# Altium integrated library NSC LDO.IntLib: 1229 symbols (part 25 of 28)
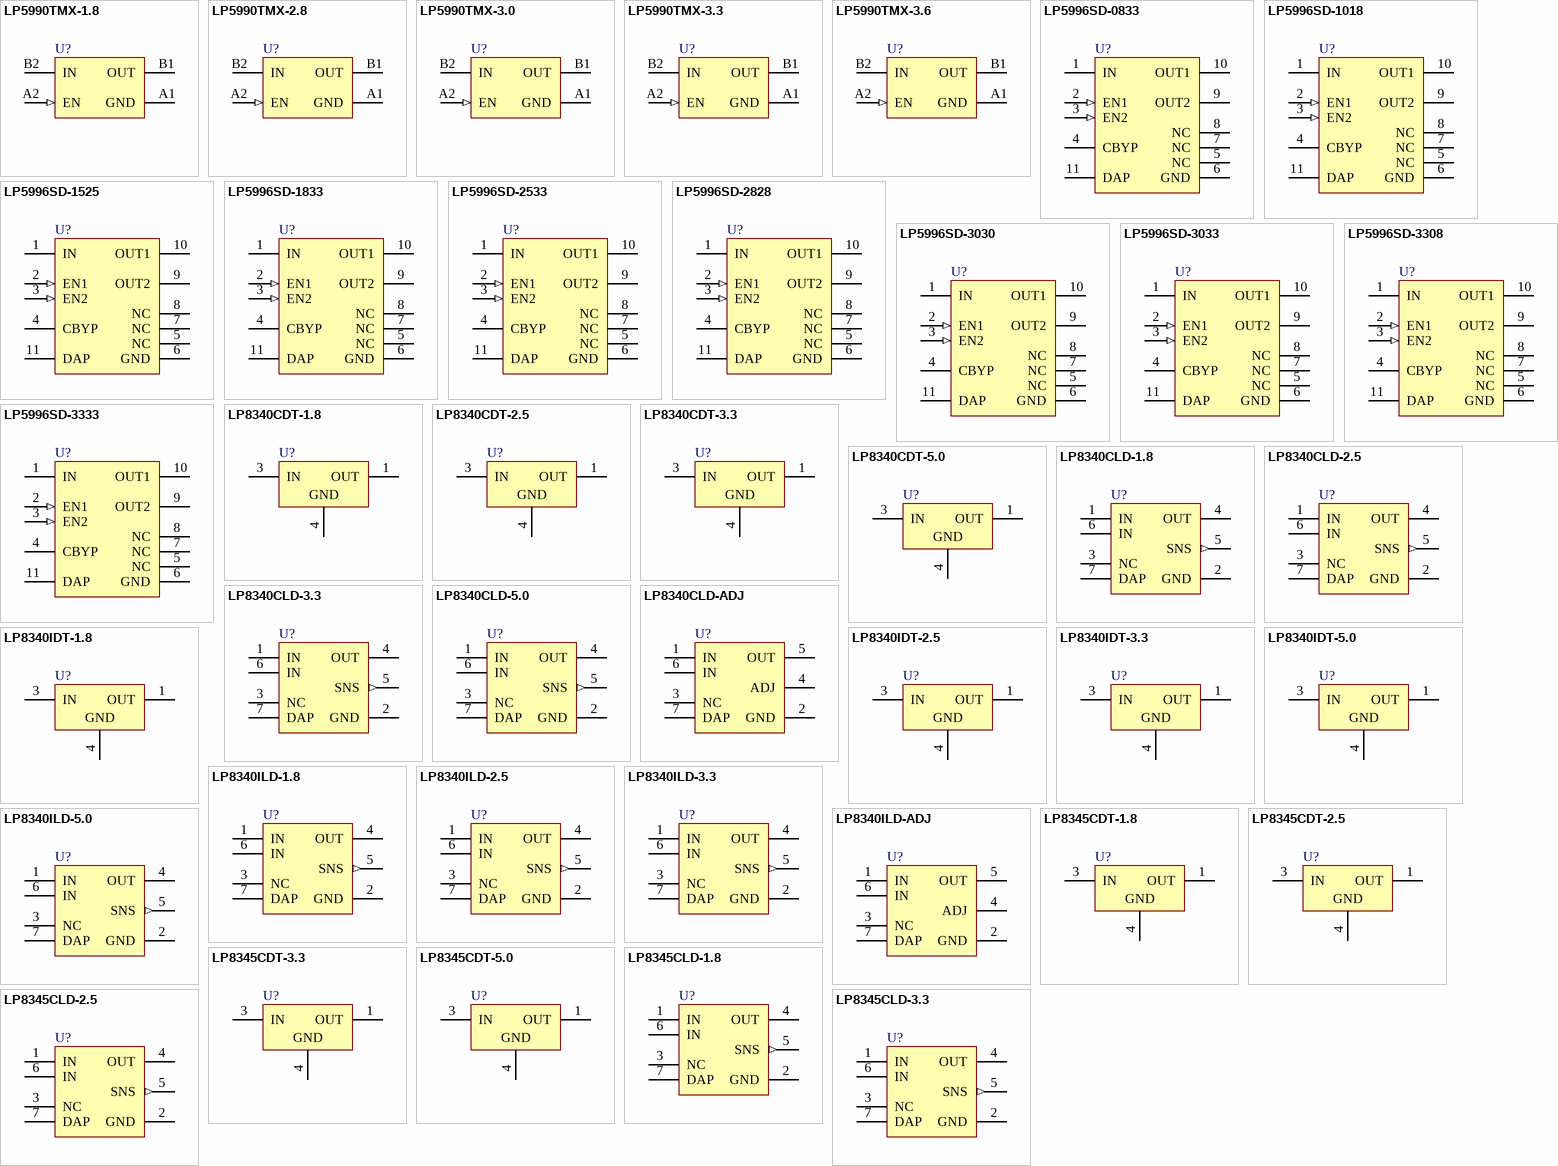
[diagram p55: symbols LP5990TMX-1.8 to LP8345CLD-3.3]

## LP5990TMX-3.0
designator U?
Micropower 200mA Low Dropout Voltage Regulator; PartNumber: LP5990TMX-3.0; Manufacturer: National Semiconductor; CompType: LDO IC; PackageTopMarking: X*I; PowerWise: N; Published: 4-May-2009; DatasheetVersion: Dec-2007; PackageVersion: revA, 2007; PackageReference: TMD04CEA; Publisher: Altium Limited; PackageDescription: Thin Micro SMD, 4 Bump, 0.4mm Pitch; RoHS: Y; PinCount: 4; ComponentLink1Description: LP5990 Datasheet; ComponentLink1URL: http://www.national.com/ds/LP/LP5990.pdf; ComponentLink2Description: LP5990 Web Page; ComponentLink2URL: http://www.national.com/mpf/LP/LP5990.html
footprint TMD04CEA (Micro SMD, 4-Leads, Body 0.92x0.87mm, Pitch 0.4mm, NSC Recommended)
pins: A1 GND (power), A2 EN (in), B1 OUT (power), B2 IN (power)

## LP5990TMX-3.3
designator U?
Micropower 200mA Low Dropout Voltage Regulator; PartNumber: LP5990TMX-3.3; Manufacturer: National Semiconductor; CompType: LDO IC; PackageTopMarking: X*I; PowerWise: N; Published: 4-May-2009; DatasheetVersion: Dec-2007; PackageVersion: revA, 2007; PackageReference: TMD04CEA; Publisher: Altium Limited; PackageDescription: Thin Micro SMD, 4 Bump, 0.4mm Pitch; RoHS: Y; PinCount: 4; DigiKeyPartNumber: LP5990TMX-3.3-ND; ComponentLink1Description: LP5990 Datasheet; ComponentLink1URL: http://www.national.com/ds/LP/LP5990.pdf; ComponentLink2Description: LP5990 Web Page; ComponentLink2URL: http://www.national.com/mpf/LP/LP5990.html
footprint TMD04CEA (Micro SMD, 4-Leads, Body 0.92x0.87mm, Pitch 0.4mm, NSC Recommended)
pins: A1 GND (power), A2 EN (in), B1 OUT (power), B2 IN (power)

## LP5990TMX-3.6
designator U?
Micropower 200mA Low Dropout Voltage Regulator; PartNumber: LP5990TMX-3.6; Manufacturer: National Semiconductor; CompType: LDO IC; PackageTopMarking: X*I; PowerWise: N; Published: 4-May-2009; DatasheetVersion: Dec-2007; PackageVersion: revA, 2007; PackageReference: TMD04CEA; Publisher: Altium Limited; PackageDescription: Thin Micro SMD, 4 Bump, 0.4mm Pitch; RoHS: Y; PinCount: 4; ComponentLink1Description: LP5990 Datasheet; ComponentLink1URL: http://www.national.com/ds/LP/LP5990.pdf; ComponentLink2Description: LP5990 Web Page; ComponentLink2URL: http://www.national.com/mpf/LP/LP5990.html
footprint TMD04CEA (Micro SMD, 4-Leads, Body 0.92x0.87mm, Pitch 0.4mm, NSC Recommended)
pins: A1 GND (power), A2 EN (in), B1 OUT (power), B2 IN (power)

## LP5996SD-0833
designator U?
Dual Linear Regulator with 300mA and 150mA Outputs; PartNumber: LP5996SD-0833; Manufacturer: National Semiconductor; CompType: LDO IC; PackageTopMarking: ZXYTT*L176B; PowerWise: N; Published: 4-Dec-2008; DatasheetVersion: Jan-2008; PackageVersion: revA, Oct-2003; PackageReference: SDA10A; Publisher: Altium Limited; PackageDescription: LLP, Plastic, Dual, 3 x 3 x 0.8mm Body, 10 Lead, 0.5mm Pitch, No Pullback; RoHS: Y; PinCount: 10; DigiKeyPartNumber: LP5996SD-0833CT-ND; ComponentLink1Description: LP5996 Datasheet; ComponentLink1URL: http://www.national.com/ds/LP/LP5996.pdf; ComponentLink2Description: LP5996 Web Page; ComponentLink2URL: http://www.national.com/pf/LP/LP5996.html; ComponentLink3Description: SDA10A Package Page; ComponentLink3URL: http://www.national.com/packaging/folders/sda10a.html
footprint SDA10A (SON, 10-Leads, Body 3x3 mm, Pitch 0.5mm, NSC Recommended)
pins: 1 IN (power), 2 EN1 (in), 3 EN2 (in), 4 CBYP, 5 NC, 6 GND (power), 7 NC, 8 NC, 9 OUT2 (power), 10 OUT1 (power), 11 DAP (power)

## LP5996SD-1018
designator U?
Dual Linear Regulator with 300mA and 150mA Outputs; PartNumber: LP5996SD-1018; Manufacturer: National Semiconductor; CompType: LDO IC; PackageTopMarking: ZXYTT*L224B; PowerWise: N; Published: 4-Dec-2008; DatasheetVersion: Jan-2008; PackageVersion: revA, Oct-2003; PackageReference: SDA10A; Publisher: Altium Limited; PackageDescription: LLP, Plastic, Dual, 3 x 3 x 0.8mm Body, 10 Lead, 0.5mm Pitch, No Pullback; RoHS: Y; PinCount: 10; ComponentLink1Description: LP5996 Datasheet; ComponentLink1URL: http://www.national.com/ds/LP/LP5996.pdf; ComponentLink2Description: LP5996 Web Page; ComponentLink2URL: http://www.national.com/pf/LP/LP5996.html; ComponentLink3Description: SDA10A Package Page; ComponentLink3URL: http://www.national.com/packaging/folders/sda10a.html
footprint SDA10A (SON, 10-Leads, Body 3x3 mm, Pitch 0.5mm, NSC Recommended)
pins: 1 IN (power), 2 EN1 (in), 3 EN2 (in), 4 CBYP, 5 NC, 6 GND (power), 7 NC, 8 NC, 9 OUT2 (power), 10 OUT1 (power), 11 DAP (power)

## LP5996SD-1525
designator U?
Dual Linear Regulator with 300mA and 150mA Outputs; PartNumber: LP5996SD-1525; Manufacturer: National Semiconductor; CompType: LDO IC; PackageTopMarking: ZXYTT*L177B; PowerWise: N; Published: 4-Dec-2008; DatasheetVersion: Jan-2008; PackageVersion: revA, Oct-2003; PackageReference: SDA10A; Publisher: Altium Limited; PackageDescription: LLP, Plastic, Dual, 3 x 3 x 0.8mm Body, 10 Lead, 0.5mm Pitch, No Pullback; RoHS: Y; PinCount: 10; DigiKeyPartNumber: LP5996SD-1525CT-ND; ComponentLink1Description: LP5996 Datasheet; ComponentLink1URL: http://www.national.com/ds/LP/LP5996.pdf; ComponentLink2Description: LP5996 Web Page; ComponentLink2URL: http://www.national.com/pf/LP/LP5996.html; ComponentLink3Description: SDA10A Package Page; ComponentLink3URL: http://www.national.com/packaging/folders/sda10a.html
footprint SDA10A (SON, 10-Leads, Body 3x3 mm, Pitch 0.5mm, NSC Recommended)
pins: 1 IN (power), 2 EN1 (in), 3 EN2 (in), 4 CBYP, 5 NC, 6 GND (power), 7 NC, 8 NC, 9 OUT2 (power), 10 OUT1 (power), 11 DAP (power)

## LP5996SD-1833
designator U?
Dual Linear Regulator with 300mA and 150mA Outputs; PartNumber: LP5996SD-1833; Manufacturer: National Semiconductor; CompType: LDO IC; PackageTopMarking: ZXYTT*L225B; PowerWise: N; Published: 4-Dec-2008; DatasheetVersion: Jan-2008; PackageVersion: revA, Oct-2003; PackageReference: SDA10A; Publisher: Altium Limited; PackageDescription: LLP, Plastic, Dual, 3 x 3 x 0.8mm Body, 10 Lead, 0.5mm Pitch, No Pullback; RoHS: Y; PinCount: 10; ComponentLink1Description: LP5996 Datasheet; ComponentLink1URL: http://www.national.com/ds/LP/LP5996.pdf; ComponentLink2Description: LP5996 Web Page; ComponentLink2URL: http://www.national.com/pf/LP/LP5996.html; ComponentLink3Description: SDA10A Package Page; ComponentLink3URL: http://www.national.com/packaging/folders/sda10a.html
footprint SDA10A (SON, 10-Leads, Body 3x3 mm, Pitch 0.5mm, NSC Recommended)
pins: 1 IN (power), 2 EN1 (in), 3 EN2 (in), 4 CBYP, 5 NC, 6 GND (power), 7 NC, 8 NC, 9 OUT2 (power), 10 OUT1 (power), 11 DAP (power)

## LP5996SD-2533
designator U?
Dual Linear Regulator with 300mA and 150mA Outputs; PartNumber: LP5996SD-2533; Manufacturer: National Semiconductor; CompType: LDO IC; PackageTopMarking: ZXYTT*L226B; PowerWise: N; Published: 4-Dec-2008; DatasheetVersion: Jan-2008; PackageVersion: revA, Oct-2003; PackageReference: SDA10A; Publisher: Altium Limited; PackageDescription: LLP, Plastic, Dual, 3 x 3 x 0.8mm Body, 10 Lead, 0.5mm Pitch, No Pullback; RoHS: Y; PinCount: 10; ComponentLink1Description: LP5996 Datasheet; ComponentLink1URL: http://www.national.com/ds/LP/LP5996.pdf; ComponentLink2Description: LP5996 Web Page; ComponentLink2URL: http://www.national.com/pf/LP/LP5996.html; ComponentLink3Description: SDA10A Package Page; ComponentLink3URL: http://www.national.com/packaging/folders/sda10a.html
footprint SDA10A (SON, 10-Leads, Body 3x3 mm, Pitch 0.5mm, NSC Recommended)
pins: 1 IN (power), 2 EN1 (in), 3 EN2 (in), 4 CBYP, 5 NC, 6 GND (power), 7 NC, 8 NC, 9 OUT2 (power), 10 OUT1 (power), 11 DAP (power)

## LP5996SD-2828
designator U?
Dual Linear Regulator with 300mA and 150mA Outputs; PartNumber: LP5996SD-2828; Manufacturer: National Semiconductor; CompType: LDO IC; PackageTopMarking: ZXYTT*L180B; PowerWise: N; Published: 4-Dec-2008; DatasheetVersion: Jan-2008; PackageVersion: revA, Oct-2003; PackageReference: SDA10A; Publisher: Altium Limited; PackageDescription: LLP, Plastic, Dual, 3 x 3 x 0.8mm Body, 10 Lead, 0.5mm Pitch, No Pullback; RoHS: Y; PinCount: 10; DigiKeyPartNumber: LP5996SD-2828CT-ND; ComponentLink1Description: LP5996 Datasheet; ComponentLink1URL: http://www.national.com/ds/LP/LP5996.pdf; ComponentLink2Description: LP5996 Web Page; ComponentLink2URL: http://www.national.com/pf/LP/LP5996.html; ComponentLink3Description: SDA10A Package Page; ComponentLink3URL: http://www.national.com/packaging/folders/sda10a.html
footprint SDA10A (SON, 10-Leads, Body 3x3 mm, Pitch 0.5mm, NSC Recommended)
pins: 1 IN (power), 2 EN1 (in), 3 EN2 (in), 4 CBYP, 5 NC, 6 GND (power), 7 NC, 8 NC, 9 OUT2 (power), 10 OUT1 (power), 11 DAP (power)

## LP5996SD-3030
designator U?
Dual Linear Regulator with 300mA and 150mA Outputs; PartNumber: LP5996SD-3030; Manufacturer: National Semiconductor; CompType: LDO IC; PackageTopMarking: ZXYTT*L181B; PowerWise: N; Published: 4-Dec-2008; DatasheetVersion: Jan-2008; PackageVersion: revA, Oct-2003; PackageReference: SDA10A; Publisher: Altium Limited; PackageDescription: LLP, Plastic, Dual, 3 x 3 x 0.8mm Body, 10 Lead, 0.5mm Pitch, No Pullback; RoHS: Y; PinCount: 10; DigiKeyPartNumber: LP5996SD-3030CT-ND; ComponentLink1Description: LP5996 Datasheet; ComponentLink1URL: http://www.national.com/ds/LP/LP5996.pdf; ComponentLink2Description: LP5996 Web Page; ComponentLink2URL: http://www.national.com/pf/LP/LP5996.html; ComponentLink3Description: SDA10A Package Page; ComponentLink3URL: http://www.national.com/packaging/folders/sda10a.html
footprint SDA10A (SON, 10-Leads, Body 3x3 mm, Pitch 0.5mm, NSC Recommended)
pins: 1 IN (power), 2 EN1 (in), 3 EN2 (in), 4 CBYP, 5 NC, 6 GND (power), 7 NC, 8 NC, 9 OUT2 (power), 10 OUT1 (power), 11 DAP (power)

## LP5996SD-3033
designator U?
Dual Linear Regulator with 300mA and 150mA Outputs; PartNumber: LP5996SD-3033; Manufacturer: National Semiconductor; CompType: LDO IC; PackageTopMarking: ZXYTT*L179B; PowerWise: N; Published: 4-Dec-2008; DatasheetVersion: Jan-2008; PackageVersion: revA, Oct-2003; PackageReference: SDA10A; Publisher: Altium Limited; PackageDescription: LLP, Plastic, Dual, 3 x 3 x 0.8mm Body, 10 Lead, 0.5mm Pitch, No Pullback; RoHS: Y; PinCount: 10; DigiKeyPartNumber: LP5996SD-3033CT-ND; ComponentLink1Description: LP5996 Datasheet; ComponentLink1URL: http://www.national.com/ds/LP/LP5996.pdf; ComponentLink2Description: LP5996 Web Page; ComponentLink2URL: http://www.national.com/pf/LP/LP5996.html; ComponentLink3Description: SDA10A Package Page; ComponentLink3URL: http://www.national.com/packaging/folders/sda10a.html
footprint SDA10A (SON, 10-Leads, Body 3x3 mm, Pitch 0.5mm, NSC Recommended)
pins: 1 IN (power), 2 EN1 (in), 3 EN2 (in), 4 CBYP, 5 NC, 6 GND (power), 7 NC, 8 NC, 9 OUT2 (power), 10 OUT1 (power), 11 DAP (power)

## LP5996SD-3308
designator U?
Dual Linear Regulator with 300mA and 150mA Outputs; PartNumber: LP5996SD-3308; Manufacturer: National Semiconductor; CompType: LDO IC; PackageTopMarking: ZXYTT*L205B; PowerWise: N; Published: 4-Dec-2008; DatasheetVersion: Jan-2008; PackageVersion: revA, Oct-2003; PackageReference: SDA10A; Publisher: Altium Limited; PackageDescription: LLP, Plastic, Dual, 3 x 3 x 0.8mm Body, 10 Lead, 0.5mm Pitch, No Pullback; RoHS: Y; PinCount: 10; DigiKeyPartNumber: LP5996SD-3308CT-ND; ComponentLink1Description: LP5996 Datasheet; ComponentLink1URL: http://www.national.com/ds/LP/LP5996.pdf; ComponentLink2Description: LP5996 Web Page; ComponentLink2URL: http://www.national.com/pf/LP/LP5996.html; ComponentLink3Description: SDA10A Package Page; ComponentLink3URL: http://www.national.com/packaging/folders/sda10a.html
footprint SDA10A (SON, 10-Leads, Body 3x3 mm, Pitch 0.5mm, NSC Recommended)
pins: 1 IN (power), 2 EN1 (in), 3 EN2 (in), 4 CBYP, 5 NC, 6 GND (power), 7 NC, 8 NC, 9 OUT2 (power), 10 OUT1 (power), 11 DAP (power)

## LP5996SD-3333
designator U?
Dual Linear Regulator with 300mA and 150mA Outputs; PartNumber: LP5996SD-3333; Manufacturer: National Semiconductor; CompType: LDO IC; PackageTopMarking: ZXYTT*L182B; PowerWise: N; Published: 4-Dec-2008; DatasheetVersion: Jan-2008; PackageVersion: revA, Oct-2003; PackageReference: SDA10A; Publisher: Altium Limited; PackageDescription: LLP, Plastic, Dual, 3 x 3 x 0.8mm Body, 10 Lead, 0.5mm Pitch, No Pullback; RoHS: Y; PinCount: 10; DigiKeyPartNumber: LP5996SD-3333CT-ND; ComponentLink1Description: LP5996 Datasheet; ComponentLink1URL: http://www.national.com/ds/LP/LP5996.pdf; ComponentLink2Description: LP5996 Web Page; ComponentLink2URL: http://www.national.com/pf/LP/LP5996.html; ComponentLink3Description: SDA10A Package Page; ComponentLink3URL: http://www.national.com/packaging/folders/sda10a.html
footprint SDA10A (SON, 10-Leads, Body 3x3 mm, Pitch 0.5mm, NSC Recommended)
pins: 1 IN (power), 2 EN1 (in), 3 EN2 (in), 4 CBYP, 5 NC, 6 GND (power), 7 NC, 8 NC, 9 OUT2 (power), 10 OUT1 (power), 11 DAP (power)

## LP8340CDT-1.8
designator U?
Low Dropout, Low IQ, 1.0A CMOS Linear Regulator; PartNumber: LP8340CDT-1.8; Manufacturer: National Semiconductor; CompType: LDO IC; PackageTopMarking: NSUZXYTT*LP8340*CDT-1.8; Published: 4-Dec-2008; DatasheetVersion: May-2005; PackageVersion: revC, Apr-2003; PackageReference: TD03B; Publisher: Altium Limited; PackageDescription: TO252, Molded, Jedec, 6.8 x 6.10 x 2.30mm Body, 3 Lead, 2.28mm Pitch, Surface Mount; RoHS: Y; PinCount: 3; DigiKeyPartNumber: LP8340CDTX-1.8-ND; Code_JEDEC: TO-252-AA; ComponentLink1Description: LP8340 Datasheet; ComponentLink1URL: http://www.national.com/ds/LP/LP8340.pdf; ComponentLink2Description: LP8340 Web Page; ComponentLink2URL: http://www.national.com/pf/LP/LP8340.html; ComponentLink3Description: TD03B Package Page; ComponentLink3URL: http://www.national.com/packaging/folders/td03b.html
footprint TD03B_N (D-PAK, 4-Leads, Body 6.1x6.6mm, Pitch 2.29mm, Lead Span 9.7mm, IPC Medium Density)
footprint TD03B_L (D-PAK, 4-Leads, Body 6.1x6.6mm, Pitch 2.29mm, Lead Span 9.7mm, IPC High Density)
footprint TD03B_M (D-PAK, 4-Leads, Body 6.1x6.6mm, Pitch 2.29mm, Lead Span 9.7mm, IPC Low Density)
pins: 1 OUT (power), 3 IN (power), 4 GND (power)

## LP8340CDT-2.5
designator U?
Low Dropout, Low IQ, 1.0A CMOS Linear Regulator; PartNumber: LP8340CDT-2.5; Manufacturer: National Semiconductor; CompType: LDO IC; PackageTopMarking: NSUZXYTT*LP8340*CDT-2.5; PowerWise: N; Published: 4-Dec-2008; DatasheetVersion: May-2005; PackageVersion: revC, Apr-2003; PackageReference: TD03B; Publisher: Altium Limited; PackageDescription: TO252, Molded, Jedec, 6.8 x 6.10 x 2.30mm Body, 3 Lead, 2.28mm Pitch, Surface Mount; RoHS: Y; PinCount: 3; DigiKeyPartNumber: LP8340CDTX-2.5-ND; Code_JEDEC: TO-252-AA; ComponentLink1Description: LP8340 Datasheet; ComponentLink1URL: http://www.national.com/ds/LP/LP8340.pdf; ComponentLink2Description: LP8340 Web Page; ComponentLink2URL: http://www.national.com/pf/LP/LP8340.html; ComponentLink3Description: TD03B Package Page; ComponentLink3URL: http://www.national.com/packaging/folders/td03b.html
footprint TD03B_N (D-PAK, 4-Leads, Body 6.1x6.6mm, Pitch 2.29mm, Lead Span 9.7mm, IPC Medium Density)
footprint TD03B_L (D-PAK, 4-Leads, Body 6.1x6.6mm, Pitch 2.29mm, Lead Span 9.7mm, IPC High Density)
footprint TD03B_M (D-PAK, 4-Leads, Body 6.1x6.6mm, Pitch 2.29mm, Lead Span 9.7mm, IPC Low Density)
pins: 1 OUT (power), 3 IN (power), 4 GND (power)

## LP8340CDT-3.3
designator U?
Low Dropout, Low IQ, 1.0A CMOS Linear Regulator; PartNumber: LP8340CDT-3.3; Manufacturer: National Semiconductor; CompType: LDO IC; PackageTopMarking: NSUZXYTT*LP8340*CDT-3.3; PowerWise: N; Published: 4-Dec-2008; DatasheetVersion: May-2005; PackageVersion: revC, Apr-2003; PackageReference: TD03B; Publisher: Altium Limited; PackageDescription: TO252, Molded, Jedec, 6.8 x 6.10 x 2.30mm Body, 3 Lead, 2.28mm Pitch, Surface Mount; RoHS: Y; PinCount: 3; DigiKeyPartNumber: LP8340CDTX-3.3-ND; Code_JEDEC: TO-252-AA; ComponentLink1Description: LP8340 Datasheet; ComponentLink1URL: http://www.national.com/ds/LP/LP8340.pdf; ComponentLink2Description: LP8340 Web Page; ComponentLink2URL: http://www.national.com/pf/LP/LP8340.html; ComponentLink3Description: TD03B Package Page; ComponentLink3URL: http://www.national.com/packaging/folders/td03b.html
footprint TD03B_N (D-PAK, 4-Leads, Body 6.1x6.6mm, Pitch 2.29mm, Lead Span 9.7mm, IPC Medium Density)
footprint TD03B_L (D-PAK, 4-Leads, Body 6.1x6.6mm, Pitch 2.29mm, Lead Span 9.7mm, IPC High Density)
footprint TD03B_M (D-PAK, 4-Leads, Body 6.1x6.6mm, Pitch 2.29mm, Lead Span 9.7mm, IPC Low Density)
pins: 1 OUT (power), 3 IN (power), 4 GND (power)

## LP8340CDT-5.0
designator U?
Low Dropout, Low IQ, 1.0A CMOS Linear Regulator; PartNumber: LP8340CDT-5.0; Manufacturer: National Semiconductor; CompType: LDO IC; PackageTopMarking: NSUZXYTT*LP8340*CDT-5.0; Published: 4-Dec-2008; DatasheetVersion: May-2005; PackageVersion: revC, Apr-2003; PackageReference: TD03B; Publisher: Altium Limited; PackageDescription: TO252, Molded, Jedec, 6.8 x 6.10 x 2.30mm Body, 3 Lead, 2.28mm Pitch, Surface Mount; RoHS: O; PinCount: 3; DigiKeyPartNumber: LP8340CDTX-5.0-ND; Code_JEDEC: TO-252-AA; ComponentLink1Description: LP8340 Datasheet; ComponentLink1URL: http://www.national.com/ds/LP/LP8340.pdf; ComponentLink2Description: LP8340 Web Page; ComponentLink2URL: http://www.national.com/pf/LP/LP8340.html; ComponentLink3Description: TD03B Package Page; ComponentLink3URL: http://www.national.com/packaging/folders/td03b.html
footprint TD03B_N (D-PAK, 4-Leads, Body 6.1x6.6mm, Pitch 2.29mm, Lead Span 9.7mm, IPC Medium Density)
footprint TD03B_L (D-PAK, 4-Leads, Body 6.1x6.6mm, Pitch 2.29mm, Lead Span 9.7mm, IPC High Density)
footprint TD03B_M (D-PAK, 4-Leads, Body 6.1x6.6mm, Pitch 2.29mm, Lead Span 9.7mm, IPC Low Density)
pins: 1 OUT (power), 3 IN (power), 4 GND (power)

## LP8340CLD-1.8
designator U?
Low Dropout, Low IQ, 1.0A CMOS Linear Regulator; PartNumber: LP8340CLD-1.8; Manufacturer: National Semiconductor; CompType: LDO IC; PackageTopMarking: ZXYTT*L042B; Published: 4-Dec-2008; DatasheetVersion: May-2005; PackageVersion: revA, Jul-2001; PackageReference: LDE06A; Publisher: Altium Limited; PackageDescription: LLP, Plastic, Dual, 2.92 x 3.29 x 0.75mm Body, 6 Lead, 0.95mm Pitch, SOT23 Land; RoHS: Y; PinCount: 6; DigiKeyPartNumber: LP8340CLD-1.8CT-ND; ComponentLink1Description: LP8340 Datasheet; ComponentLink1URL: http://www.national.com/ds/LP/LP8340.pdf; ComponentLink2Description: LP8340 Web Page; ComponentLink2URL: http://www.national.com/pf/LP/LP8340.html; ComponentLink3Description: LDE06A Package Page; ComponentLink3URL: http://www.national.com/packaging/folders/lde06a.html
footprint LDE06A (PSON, 6-Leads, Body 2.92x3.29 mm, Pitch 0.95mm, NSC Recommended)
pins: 1 IN (power), 2 GND (power), 3 NC, 4 OUT (power), 5 SNS (out), 6 IN (power), 7 DAP (power)

## LP8340CLD-2.5
designator U?
Low Dropout, Low IQ, 1.0A CMOS Linear Regulator; PartNumber: LP8340CLD-2.5; Manufacturer: National Semiconductor; CompType: LDO IC; PackageTopMarking: ZXYTT*L043B; Published: 4-Dec-2008; DatasheetVersion: May-2005; PackageVersion: revA, Jul-2001; PackageReference: LDE06A; Publisher: Altium Limited; PackageDescription: LLP, Plastic, Dual, 2.92 x 3.29 x 0.75mm Body, 6 Lead, 0.95mm Pitch, SOT23 Land; RoHS: Y; PinCount: 6; DigiKeyPartNumber: LP8340CLD-2.5CT-ND; ComponentLink1Description: LP8340 Datasheet; ComponentLink1URL: http://www.national.com/ds/LP/LP8340.pdf; ComponentLink2Description: LP8340 Web Page; ComponentLink2URL: http://www.national.com/pf/LP/LP8340.html; ComponentLink3Description: LDE06A Package Page; ComponentLink3URL: http://www.national.com/packaging/folders/lde06a.html
footprint LDE06A (PSON, 6-Leads, Body 2.92x3.29 mm, Pitch 0.95mm, NSC Recommended)
pins: 1 IN (power), 2 GND (power), 3 NC, 4 OUT (power), 5 SNS (out), 6 IN (power), 7 DAP (power)

## LP8340CLD-3.3
designator U?
Low Dropout, Low IQ, 1.0A CMOS Linear Regulator; PartNumber: LP8340CLD-3.3; Manufacturer: National Semiconductor; CompType: LDO IC; PackageTopMarking: ZXYTT*L051B; Published: 4-Dec-2008; DatasheetVersion: May-2005; PackageVersion: revA, Jul-2001; PackageReference: LDE06A; Publisher: Altium Limited; PackageDescription: LLP, Plastic, Dual, 2.92 x 3.29 x 0.75mm Body, 6 Lead, 0.95mm Pitch, SOT23 Land; RoHS: Y; PinCount: 6; DigiKeyPartNumber: LP8340CLD-3.3CT-ND; ComponentLink1Description: LP8340 Datasheet; ComponentLink1URL: http://www.national.com/ds/LP/LP8340.pdf; ComponentLink2Description: LP8340 Web Page; ComponentLink2URL: http://www.national.com/pf/LP/LP8340.html; ComponentLink3Description: LDE06A Package Page; ComponentLink3URL: http://www.national.com/packaging/folders/lde06a.html
footprint LDE06A (PSON, 6-Leads, Body 2.92x3.29 mm, Pitch 0.95mm, NSC Recommended)
pins: 1 IN (power), 2 GND (power), 3 NC, 4 OUT (power), 5 SNS (out), 6 IN (power), 7 DAP (power)

## LP8340CLD-5.0
designator U?
Low Dropout, Low IQ, 1.0A CMOS Linear Regulator; PartNumber: LP8340CLD-5.0; Manufacturer: National Semiconductor; CompType: LDO IC; PackageTopMarking: ZXYTT*L044B; Published: 4-Dec-2008; DatasheetVersion: May-2005; PackageVersion: revA, Jul-2001; PackageReference: LDE06A; Publisher: Altium Limited; PackageDescription: LLP, Plastic, Dual, 2.92 x 3.29 x 0.75mm Body, 6 Lead, 0.95mm Pitch, SOT23 Land; RoHS: Y; PinCount: 6; DigiKeyPartNumber: LP8340CLD-5.0CT-ND; ComponentLink1Description: LP8340 Datasheet; ComponentLink1URL: http://www.national.com/ds/LP/LP8340.pdf; ComponentLink2Description: LP8340 Web Page; ComponentLink2URL: http://www.national.com/pf/LP/LP8340.html; ComponentLink3Description: LDE06A Package Page; ComponentLink3URL: http://www.national.com/packaging/folders/lde06a.html
footprint LDE06A (PSON, 6-Leads, Body 2.92x3.29 mm, Pitch 0.95mm, NSC Recommended)
pins: 1 IN (power), 2 GND (power), 3 NC, 4 OUT (power), 5 SNS (out), 6 IN (power), 7 DAP (power)

## LP8340CLD-ADJ
designator U?
Low Dropout, Low IQ, 1.0A CMOS Linear Regulator; PartNumber: LP8340CLD-ADJ; Manufacturer: National Semiconductor; CompType: LDO IC; PackageTopMarking: ZXYTT*L041B; PowerWise: N; Published: 4-Dec-2008; DatasheetVersion: May-2005; PackageVersion: revA, Jul-2001; PackageReference: LDE06A; Publisher: Altium Limited; PackageDescription: LLP, Plastic, Dual, 2.92 x 3.29 x 0.75mm Body, 6 Lead, 0.95mm Pitch, SOT23 Land; RoHS: Y; PinCount: 6; DigiKeyPartNumber: LP8340CLD-ADJCT-ND; ComponentLink1Description: LP8340 Datasheet; ComponentLink1URL: http://www.national.com/ds/LP/LP8340.pdf; ComponentLink2Description: LP8340 Web Page; ComponentLink2URL: http://www.national.com/pf/LP/LP8340.html; ComponentLink3Description: LDE06A Package Page; ComponentLink3URL: http://www.national.com/packaging/folders/lde06a.html
footprint LDE06A (PSON, 6-Leads, Body 2.92x3.29 mm, Pitch 0.95mm, NSC Recommended)
pins: 1 IN (power), 2 GND (power), 3 NC, 4 ADJ, 5 OUT (power), 6 IN (power), 7 DAP (power)

## LP8340IDT-1.8
designator U?
Low Dropout, Low IQ, 1.0A CMOS Linear Regulator; PartNumber: LP8340IDT-1.8; Manufacturer: National Semiconductor; CompType: LDO IC; PackageTopMarking: NSUZXYTT*LP8340*IDT-1.8; Published: 4-Dec-2008; DatasheetVersion: May-2005; PackageVersion: revC, Apr-2003; PackageReference: TD03B; Publisher: Altium Limited; PackageDescription: TO252, Molded, Jedec, 6.8 x 6.10 x 2.30mm Body, 3 Lead, 2.28mm Pitch, Surface Mount; RoHS: Y; PinCount: 3; DigiKeyPartNumber: LP8340IDT-1.8-ND; Code_JEDEC: TO-252-AA; ComponentLink1Description: LP8340 Datasheet; ComponentLink1URL: http://www.national.com/ds/LP/LP8340.pdf; ComponentLink2Description: LP8340 Web Page; ComponentLink2URL: http://www.national.com/pf/LP/LP8340.html; ComponentLink3Description: TD03B Package Page; ComponentLink3URL: http://www.national.com/packaging/folders/td03b.html
footprint TD03B_N (D-PAK, 4-Leads, Body 6.1x6.6mm, Pitch 2.29mm, Lead Span 9.7mm, IPC Medium Density)
footprint TD03B_L (D-PAK, 4-Leads, Body 6.1x6.6mm, Pitch 2.29mm, Lead Span 9.7mm, IPC High Density)
footprint TD03B_M (D-PAK, 4-Leads, Body 6.1x6.6mm, Pitch 2.29mm, Lead Span 9.7mm, IPC Low Density)
pins: 1 OUT (power), 3 IN (power), 4 GND (power)

## LP8340IDT-2.5
designator U?
Low Dropout, Low IQ, 1.0A CMOS Linear Regulator; PartNumber: LP8340IDT-2.5; Manufacturer: National Semiconductor; CompType: LDO IC; PackageTopMarking: NSUZXYTT*LP8340*IDT-2.5; Published: 4-Dec-2008; DatasheetVersion: May-2005; PackageVersion: revC, Apr-2003; PackageReference: TD03B; Publisher: Altium Limited; PackageDescription: TO252, Molded, Jedec, 6.8 x 6.10 x 2.30mm Body, 3 Lead, 2.28mm Pitch, Surface Mount; RoHS: Y; PinCount: 3; DigiKeyPartNumber: LP8340IDT-2.5-ND; Code_JEDEC: TO-252-AA; ComponentLink1Description: LP8340 Datasheet; ComponentLink1URL: http://www.national.com/ds/LP/LP8340.pdf; ComponentLink2Description: LP8340 Web Page; ComponentLink2URL: http://www.national.com/pf/LP/LP8340.html; ComponentLink3Description: TD03B Package Page; ComponentLink3URL: http://www.national.com/packaging/folders/td03b.html
footprint TD03B_N (D-PAK, 4-Leads, Body 6.1x6.6mm, Pitch 2.29mm, Lead Span 9.7mm, IPC Medium Density)
footprint TD03B_L (D-PAK, 4-Leads, Body 6.1x6.6mm, Pitch 2.29mm, Lead Span 9.7mm, IPC High Density)
footprint TD03B_M (D-PAK, 4-Leads, Body 6.1x6.6mm, Pitch 2.29mm, Lead Span 9.7mm, IPC Low Density)
pins: 1 OUT (power), 3 IN (power), 4 GND (power)

## LP8340IDT-3.3
designator U?
Low Dropout, Low IQ, 1.0A CMOS Linear Regulator; PartNumber: LP8340IDT-3.3; Manufacturer: National Semiconductor; CompType: LDO IC; PackageTopMarking: NSUZXYTT*LP8340*IDT-3.3; Published: 4-Dec-2008; DatasheetVersion: May-2005; PackageVersion: revC, Apr-2003; PackageReference: TD03B; Publisher: Altium Limited; PackageDescription: TO252, Molded, Jedec, 6.8 x 6.10 x 2.30mm Body, 3 Lead, 2.28mm Pitch, Surface Mount; RoHS: Y; PinCount: 3; DigiKeyPartNumber: LP8340IDT-3.3-ND; Code_JEDEC: TO-252-AA; ComponentLink1Description: LP8340 Datasheet; ComponentLink1URL: http://www.national.com/ds/LP/LP8340.pdf; ComponentLink2Description: LP8340 Web Page; ComponentLink2URL: http://www.national.com/pf/LP/LP8340.html; ComponentLink3Description: TD03B Package Page; ComponentLink3URL: http://www.national.com/packaging/folders/td03b.html
footprint TD03B_N (D-PAK, 4-Leads, Body 6.1x6.6mm, Pitch 2.29mm, Lead Span 9.7mm, IPC Medium Density)
footprint TD03B_L (D-PAK, 4-Leads, Body 6.1x6.6mm, Pitch 2.29mm, Lead Span 9.7mm, IPC High Density)
footprint TD03B_M (D-PAK, 4-Leads, Body 6.1x6.6mm, Pitch 2.29mm, Lead Span 9.7mm, IPC Low Density)
pins: 1 OUT (power), 3 IN (power), 4 GND (power)

## LP8340IDT-5.0
designator U?
Low Dropout, Low IQ, 1.0A CMOS Linear Regulator; PartNumber: LP8340IDT-5.0; Manufacturer: National Semiconductor; CompType: LDO IC; PackageTopMarking: NSUZXYTT*LP8340*IDT-5.0; PowerWise: N; Published: 4-Dec-2008; DatasheetVersion: May-2005; PackageVersion: revC, Apr-2003; PackageReference: TD03B; Publisher: Altium Limited; PackageDescription: TO252, Molded, Jedec, 6.8 x 6.10 x 2.30mm Body, 3 Lead, 2.28mm Pitch, Surface Mount; RoHS: Y; PinCount: 3; DigiKeyPartNumber: LP8340IDT-5.0-ND; Code_JEDEC: TO-252-AA; ComponentLink1Description: LP8340 Datasheet; ComponentLink1URL: http://www.national.com/ds/LP/LP8340.pdf; ComponentLink2Description: LP8340 Web Page; ComponentLink2URL: http://www.national.com/pf/LP/LP8340.html; ComponentLink3Description: TD03B Package Page; ComponentLink3URL: http://www.national.com/packaging/folders/td03b.html
footprint TD03B_N (D-PAK, 4-Leads, Body 6.1x6.6mm, Pitch 2.29mm, Lead Span 9.7mm, IPC Medium Density)
footprint TD03B_L (D-PAK, 4-Leads, Body 6.1x6.6mm, Pitch 2.29mm, Lead Span 9.7mm, IPC High Density)
footprint TD03B_M (D-PAK, 4-Leads, Body 6.1x6.6mm, Pitch 2.29mm, Lead Span 9.7mm, IPC Low Density)
pins: 1 OUT (power), 3 IN (power), 4 GND (power)

## LP8340ILD-1.8
designator U?
Low Dropout, Low IQ, 1.0A CMOS Linear Regulator; PartNumber: LP8340ILD-1.8; Manufacturer: National Semiconductor; CompType: LDO IC; PackageTopMarking: ZXYTT*L079B; Published: 4-Dec-2008; DatasheetVersion: May-2005; PackageVersion: revA, Jul-2001; PackageReference: LDE06A; Publisher: Altium Limited; PackageDescription: LLP, Plastic, Dual, 2.92 x 3.29 x 0.75mm Body, 6 Lead, 0.95mm Pitch, SOT23 Land; RoHS: O; PinCount: 6; DigiKeyPartNumber: LP8340ILD-1.8-ND; ComponentLink1Description: LP8340 Datasheet; ComponentLink1URL: http://www.national.com/ds/LP/LP8340.pdf; ComponentLink2Description: LP8340 Web Page; ComponentLink2URL: http://www.national.com/pf/LP/LP8340.html; ComponentLink3Description: LDE06A Package Page; ComponentLink3URL: http://www.national.com/packaging/folders/lde06a.html
footprint LDE06A (PSON, 6-Leads, Body 2.92x3.29 mm, Pitch 0.95mm, NSC Recommended)
pins: 1 IN (power), 2 GND (power), 3 NC, 4 OUT (power), 5 SNS (out), 6 IN (power), 7 DAP (power)

## LP8340ILD-2.5
designator U?
Low Dropout, Low IQ, 1.0A CMOS Linear Regulator; PartNumber: LP8340ILD-2.5; Manufacturer: National Semiconductor; CompType: LDO IC; PackageTopMarking: ZXYTT*L080B; Published: 4-Dec-2008; DatasheetVersion: May-2005; PackageVersion: revA, Jul-2001; PackageReference: LDE06A; Publisher: Altium Limited; PackageDescription: LLP, Plastic, Dual, 2.92 x 3.29 x 0.75mm Body, 6 Lead, 0.95mm Pitch, SOT23 Land; RoHS: Y; PinCount: 6; DigiKeyPartNumber: LP8340ILD-2.5-ND; ComponentLink1Description: LP8340 Datasheet; ComponentLink1URL: http://www.national.com/ds/LP/LP8340.pdf; ComponentLink2Description: LP8340 Web Page; ComponentLink2URL: http://www.national.com/pf/LP/LP8340.html; ComponentLink3Description: LDE06A Package Page; ComponentLink3URL: http://www.national.com/packaging/folders/lde06a.html
footprint LDE06A (PSON, 6-Leads, Body 2.92x3.29 mm, Pitch 0.95mm, NSC Recommended)
pins: 1 IN (power), 2 GND (power), 3 NC, 4 OUT (power), 5 SNS (out), 6 IN (power), 7 DAP (power)

## LP8340ILD-3.3
designator U?
Low Dropout, Low IQ, 1.0A CMOS Linear Regulator; PartNumber: LP8340ILD-3.3; Manufacturer: National Semiconductor; CompType: LDO IC; PackageTopMarking: ZXYTT*L081B; PowerWise: N; Published: 4-Dec-2008; DatasheetVersion: May-2005; PackageVersion: revA, Jul-2001; PackageReference: LDE06A; Publisher: Altium Limited; PackageDescription: LLP, Plastic, Dual, 2.92 x 3.29 x 0.75mm Body, 6 Lead, 0.95mm Pitch, SOT23 Land; RoHS: Y; PinCount: 6; DigiKeyPartNumber: LP8340ILD-3.3-ND; ComponentLink1Description: LP8340 Datasheet; ComponentLink1URL: http://www.national.com/ds/LP/LP8340.pdf; ComponentLink2Description: LP8340 Web Page; ComponentLink2URL: http://www.national.com/pf/LP/LP8340.html; ComponentLink3Description: LDE06A Package Page; ComponentLink3URL: http://www.national.com/packaging/folders/lde06a.html
footprint LDE06A (PSON, 6-Leads, Body 2.92x3.29 mm, Pitch 0.95mm, NSC Recommended)
pins: 1 IN (power), 2 GND (power), 3 NC, 4 OUT (power), 5 SNS (out), 6 IN (power), 7 DAP (power)

## LP8340ILD-5.0
designator U?
Low Dropout, Low IQ, 1.0A CMOS Linear Regulator; PartNumber: LP8340ILD-5.0; Manufacturer: National Semiconductor; CompType: LDO IC; PackageTopMarking: ZXYTT*L082B; Published: 4-Dec-2008; DatasheetVersion: May-2005; PackageVersion: revA, Jul-2001; PackageReference: LDE06A; Publisher: Altium Limited; PackageDescription: LLP, Plastic, Dual, 2.92 x 3.29 x 0.75mm Body, 6 Lead, 0.95mm Pitch, SOT23 Land; RoHS: Y; PinCount: 6; DigiKeyPartNumber: LP8340ILD-5.0-ND; ComponentLink1Description: LP8340 Datasheet; ComponentLink1URL: http://www.national.com/ds/LP/LP8340.pdf; ComponentLink2Description: LP8340 Web Page; ComponentLink2URL: http://www.national.com/pf/LP/LP8340.html; ComponentLink3Description: LDE06A Package Page; ComponentLink3URL: http://www.national.com/packaging/folders/lde06a.html
footprint LDE06A (PSON, 6-Leads, Body 2.92x3.29 mm, Pitch 0.95mm, NSC Recommended)
pins: 1 IN (power), 2 GND (power), 3 NC, 4 OUT (power), 5 SNS (out), 6 IN (power), 7 DAP (power)

## LP8340ILD-ADJ
designator U?
Low Dropout, Low IQ, 1.0A CMOS Linear Regulator; PartNumber: LP8340ILD-ADJ; Manufacturer: National Semiconductor; CompType: LDO IC; PackageTopMarking: ZXYTT*L078B; PowerWise: N; Published: 4-Dec-2008; DatasheetVersion: May-2005; PackageVersion: revA, Jul-2001; PackageReference: LDE06A; Publisher: Altium Limited; PackageDescription: LLP, Plastic, Dual, 2.92 x 3.29 x 0.75mm Body, 6 Lead, 0.95mm Pitch, SOT23 Land; RoHS: Y; PinCount: 6; DigiKeyPartNumber: LP8340ILD-ADJ-ND; ComponentLink1Description: LP8340 Datasheet; ComponentLink1URL: http://www.national.com/ds/LP/LP8340.pdf; ComponentLink2Description: LP8340 Web Page; ComponentLink2URL: http://www.national.com/pf/LP/LP8340.html; ComponentLink3Description: LDE06A Package Page; ComponentLink3URL: http://www.national.com/packaging/folders/lde06a.html
footprint LDE06A (PSON, 6-Leads, Body 2.92x3.29 mm, Pitch 0.95mm, NSC Recommended)
pins: 1 IN (power), 2 GND (power), 3 NC, 4 ADJ, 5 OUT (power), 6 IN (power), 7 DAP (power)

## LP8345CDT-1.8
designator U?
Low Dropout, Low IQ, 500mA CMOS Linear Regulator; PartNumber: LP8345CDT-1.8; Manufacturer: National Semiconductor; CompType: LDO IC; PackageTopMarking: NSUZXYTT*LP8345*CDT-1.8; PowerWise: N; Published: 4-Dec-2008; DatasheetVersion: May-2005; PackageVersion: revC, Apr-2003; PackageReference: TD03B; Publisher: Altium Limited; PackageDescription: TO252, Molded, Jedec, 6.8 x 6.10 x 2.30mm Body, 3 Lead, 2.28mm Pitch, Surface Mount; RoHS: Y; PinCount: 3; DigiKeyPartNumber: LP8345CDT-1.8-ND; Code_JEDEC: TO-252-AA; ComponentLink1Description: LP8345 Datasheet; ComponentLink1URL: http://www.national.com/ds/LP/LP8345.pdf; ComponentLink2Description: LP8345 Web Page; ComponentLink2URL: http://www.national.com/pf/LP/LP8345.html; ComponentLink3Description: TD03B Package Page; ComponentLink3URL: http://www.national.com/packaging/folders/td03b.html
footprint TD03B_N (D-PAK, 4-Leads, Body 6.1x6.6mm, Pitch 2.29mm, Lead Span 9.7mm, IPC Medium Density)
footprint TD03B_L (D-PAK, 4-Leads, Body 6.1x6.6mm, Pitch 2.29mm, Lead Span 9.7mm, IPC High Density)
footprint TD03B_M (D-PAK, 4-Leads, Body 6.1x6.6mm, Pitch 2.29mm, Lead Span 9.7mm, IPC Low Density)
pins: 1 OUT (power), 3 IN (power), 4 GND (power)

## LP8345CDT-2.5
designator U?
Low Dropout, Low IQ, 500mA CMOS Linear Regulator; PartNumber: LP8345CDT-2.5; Manufacturer: National Semiconductor; CompType: LDO IC; PackageTopMarking: NSUZXYTT*LP8345*CDT-2.5; PowerWise: N; Published: 4-Dec-2008; DatasheetVersion: May-2005; PackageVersion: revC, Apr-2003; PackageReference: TD03B; Publisher: Altium Limited; PackageDescription: TO252, Molded, Jedec, 6.8 x 6.10 x 2.30mm Body, 3 Lead, 2.28mm Pitch, Surface Mount; RoHS: Y; PinCount: 3; DigiKeyPartNumber: LP8345CDT-2.5-ND; Code_JEDEC: TO-252-AA; ComponentLink1Description: LP8345 Datasheet; ComponentLink1URL: http://www.national.com/ds/LP/LP8345.pdf; ComponentLink2Description: LP8345 Web Page; ComponentLink2URL: http://www.national.com/pf/LP/LP8345.html; ComponentLink3Description: TD03B Package Page; ComponentLink3URL: http://www.national.com/packaging/folders/td03b.html
footprint TD03B_N (D-PAK, 4-Leads, Body 6.1x6.6mm, Pitch 2.29mm, Lead Span 9.7mm, IPC Medium Density)
footprint TD03B_L (D-PAK, 4-Leads, Body 6.1x6.6mm, Pitch 2.29mm, Lead Span 9.7mm, IPC High Density)
footprint TD03B_M (D-PAK, 4-Leads, Body 6.1x6.6mm, Pitch 2.29mm, Lead Span 9.7mm, IPC Low Density)
pins: 1 OUT (power), 3 IN (power), 4 GND (power)

## LP8345CDT-3.3
designator U?
Low Dropout, Low IQ, 500mA CMOS Linear Regulator; PartNumber: LP8345CDT-3.3; Manufacturer: National Semiconductor; CompType: LDO IC; PackageTopMarking: NSUZXYTT*LP8345*CDT-3.3; PowerWise: N; Published: 4-Dec-2008; DatasheetVersion: May-2005; PackageVersion: revC, Apr-2003; PackageReference: TD03B; Publisher: Altium Limited; PackageDescription: TO252, Molded, Jedec, 6.8 x 6.10 x 2.30mm Body, 3 Lead, 2.28mm Pitch, Surface Mount; RoHS: O; PinCount: 3; DigiKeyPartNumber: LP8345CDT-3.3-ND; Code_JEDEC: TO-252-AA; ComponentLink1Description: LP8345 Datasheet; ComponentLink1URL: http://www.national.com/ds/LP/LP8345.pdf; ComponentLink2Description: LP8345 Web Page; ComponentLink2URL: http://www.national.com/pf/LP/LP8345.html; ComponentLink3Description: TD03B Package Page; ComponentLink3URL: http://www.national.com/packaging/folders/td03b.html
footprint TD03B_N (D-PAK, 4-Leads, Body 6.1x6.6mm, Pitch 2.29mm, Lead Span 9.7mm, IPC Medium Density)
footprint TD03B_L (D-PAK, 4-Leads, Body 6.1x6.6mm, Pitch 2.29mm, Lead Span 9.7mm, IPC High Density)
footprint TD03B_M (D-PAK, 4-Leads, Body 6.1x6.6mm, Pitch 2.29mm, Lead Span 9.7mm, IPC Low Density)
pins: 1 OUT (power), 3 IN (power), 4 GND (power)

## LP8345CDT-5.0
designator U?
Low Dropout, Low IQ, 500mA CMOS Linear Regulator; PartNumber: LP8345CDT-5.0; Manufacturer: National Semiconductor; CompType: LDO IC; PackageTopMarking: NSUZXYTT*LP8345*CDT-5.0; PowerWise: N; Published: 4-Dec-2008; DatasheetVersion: May-2005; PackageVersion: revC, Apr-2003; PackageReference: TD03B; Publisher: Altium Limited; PackageDescription: TO252, Molded, Jedec, 6.8 x 6.10 x 2.30mm Body, 3 Lead, 2.28mm Pitch, Surface Mount; RoHS: O; PinCount: 3; DigiKeyPartNumber: LP8345CDT-5.0-ND; Code_JEDEC: TO-252-AA; ComponentLink1Description: LP8345 Datasheet; ComponentLink1URL: http://www.national.com/ds/LP/LP8345.pdf; ComponentLink2Description: LP8345 Web Page; ComponentLink2URL: http://www.national.com/pf/LP/LP8345.html; ComponentLink3Description: TD03B Package Page; ComponentLink3URL: http://www.national.com/packaging/folders/td03b.html
footprint TD03B_N (D-PAK, 4-Leads, Body 6.1x6.6mm, Pitch 2.29mm, Lead Span 9.7mm, IPC Medium Density)
footprint TD03B_L (D-PAK, 4-Leads, Body 6.1x6.6mm, Pitch 2.29mm, Lead Span 9.7mm, IPC High Density)
footprint TD03B_M (D-PAK, 4-Leads, Body 6.1x6.6mm, Pitch 2.29mm, Lead Span 9.7mm, IPC Low Density)
pins: 1 OUT (power), 3 IN (power), 4 GND (power)

## LP8345CLD-1.8
designator U?
Low Dropout, Low IQ, 500mA CMOS Linear Regulator; PartNumber: LP8345CLD-1.8; Manufacturer: National Semiconductor; CompType: LDO IC; PackageTopMarking: ZXYTT*L046B; PowerWise: N; Published: 4-Dec-2008; DatasheetVersion: May-2005; PackageVersion: revA, Jul-2001; PackageReference: LDE06A; Publisher: Altium Limited; PackageDescription: LLP, Plastic, Dual, 2.92 x 3.29 x 0.75mm Body, 6 Lead, 0.95mm Pitch, SOT23 Land; RoHS: Y; PinCount: 6; DigiKeyPartNumber: LP8345CLD-1.8CT-ND; ComponentLink1Description: LP8345 Datasheet; ComponentLink1URL: http://www.national.com/ds/LP/LP8345.pdf; ComponentLink2Description: LP8345 Web Page; ComponentLink2URL: http://www.national.com/pf/LP/LP8345.html; ComponentLink3Description: LDE06A Package Page; ComponentLink3URL: http://www.national.com/packaging/folders/lde06a.html
footprint LDE06A (PSON, 6-Leads, Body 2.92x3.29 mm, Pitch 0.95mm, NSC Recommended)
pins: 1 IN (power), 2 GND (power), 3 NC, 4 OUT (power), 5 SNS (out), 6 IN (power), 7 DAP (power)

## LP8345CLD-2.5
designator U?
Low Dropout, Low IQ, 500mA CMOS Linear Regulator; PartNumber: LP8345CLD-2.5; Manufacturer: National Semiconductor; CompType: LDO IC; PackageTopMarking: ZXYTT*L047B; PowerWise: N; Published: 4-Dec-2008; DatasheetVersion: May-2005; PackageVersion: revA, Jul-2001; PackageReference: LDE06A; Publisher: Altium Limited; PackageDescription: LLP, Plastic, Dual, 2.92 x 3.29 x 0.75mm Body, 6 Lead, 0.95mm Pitch, SOT23 Land; RoHS: Y; PinCount: 6; DigiKeyPartNumber: LP8345CLD-2.5CT-ND; ComponentLink1Description: LP8345 Datasheet; ComponentLink1URL: http://www.national.com/ds/LP/LP8345.pdf; ComponentLink2Description: LP8345 Web Page; ComponentLink2URL: http://www.national.com/pf/LP/LP8345.html; ComponentLink3Description: LDE06A Package Page; ComponentLink3URL: http://www.national.com/packaging/folders/lde06a.html
footprint LDE06A (PSON, 6-Leads, Body 2.92x3.29 mm, Pitch 0.95mm, NSC Recommended)
pins: 1 IN (power), 2 GND (power), 3 NC, 4 OUT (power), 5 SNS (out), 6 IN (power), 7 DAP (power)

## LP8345CLD-3.3
designator U?
Low Dropout, Low IQ, 500mA CMOS Linear Regulator; PartNumber: LP8345CLD-3.3; Manufacturer: National Semiconductor; CompType: LDO IC; PackageTopMarking: ZXYTT*L048B; PowerWise: N; Published: 4-Dec-2008; DatasheetVersion: May-2005; PackageVersion: revA, Jul-2001; PackageReference: LDE06A; Publisher: Altium Limited; PackageDescription: LLP, Plastic, Dual, 2.92 x 3.29 x 0.75mm Body, 6 Lead, 0.95mm Pitch, SOT23 Land; RoHS: O; PinCount: 6; DigiKeyPartNumber: LP8345CLD-3.3CT-ND; ComponentLink1Description: LP8345 Datasheet; ComponentLink1URL: http://www.national.com/ds/LP/LP8345.pdf; ComponentLink2Description: LP8345 Web Page; ComponentLink2URL: http://www.national.com/pf/LP/LP8345.html; ComponentLink3Description: LDE06A Package Page; ComponentLink3URL: http://www.national.com/packaging/folders/lde06a.html
footprint LDE06A (PSON, 6-Leads, Body 2.92x3.29 mm, Pitch 0.95mm, NSC Recommended)
pins: 1 IN (power), 2 GND (power), 3 NC, 4 OUT (power), 5 SNS (out), 6 IN (power), 7 DAP (power)

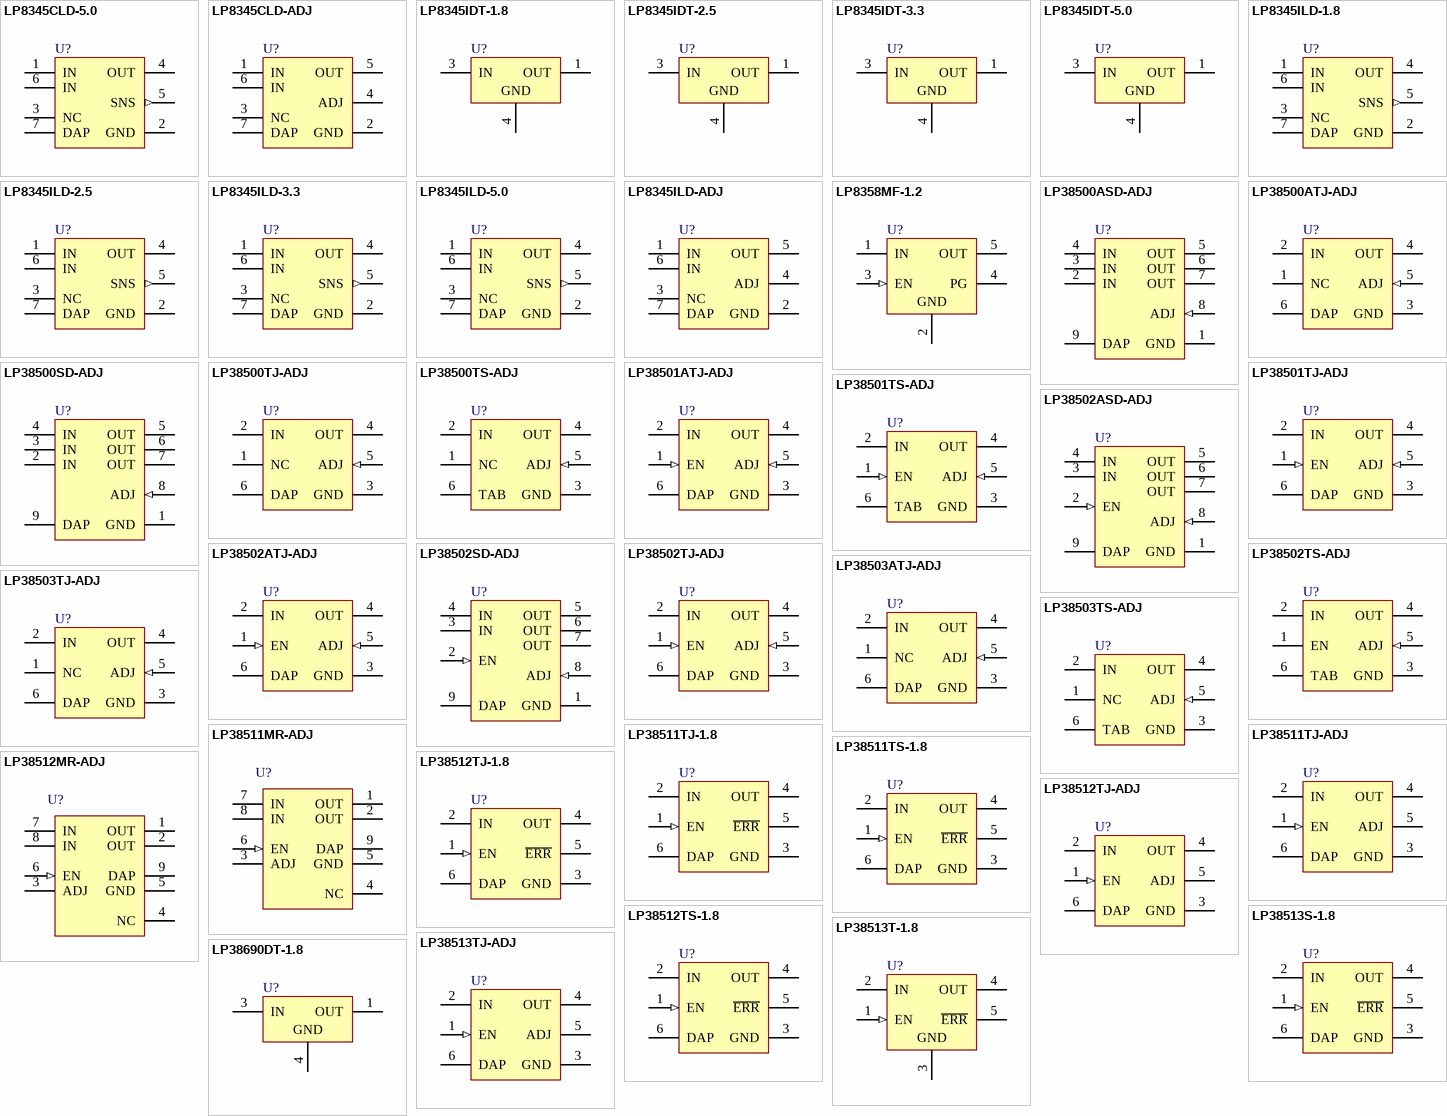
[diagram p28: symbols LP8345CLD-5.0 to LP38690DT-1.8]

## LP8345CLD-5.0
designator U?
Low Dropout, Low IQ, 500mA CMOS Linear Regulator; PartNumber: LP8345CLD-5.0; Manufacturer: National Semiconductor; CompType: LDO IC; PackageTopMarking: ZXYTT*L049B; Published: 4-Dec-2008; DatasheetVersion: May-2005; PackageVersion: revA, Jul-2001; PackageReference: LDE06A; Publisher: Altium Limited; PackageDescription: LLP, Plastic, Dual, 2.92 x 3.29 x 0.75mm Body, 6 Lead, 0.95mm Pitch, SOT23 Land; RoHS: Y; PinCount: 6; DigiKeyPartNumber: LP8345CLD-5.0CT-ND; ComponentLink1Description: LP8345 Datasheet; ComponentLink1URL: http://www.national.com/ds/LP/LP8345.pdf; ComponentLink2Description: LP8345 Web Page; ComponentLink2URL: http://www.national.com/pf/LP/LP8345.html; ComponentLink3Description: LDE06A Package Page; ComponentLink3URL: http://www.national.com/packaging/folders/lde06a.html
footprint LDE06A (PSON, 6-Leads, Body 2.92x3.29 mm, Pitch 0.95mm, NSC Recommended)
pins: 1 IN (power), 2 GND (power), 3 NC, 4 OUT (power), 5 SNS (out), 6 IN (power), 7 DAP (power)

## LP8345CLD-ADJ
designator U?
Low Dropout, Low IQ, 500mA CMOS Linear Regulator; PartNumber: LP8345CLD-ADJ; Manufacturer: National Semiconductor; CompType: LDO IC; PackageTopMarking: ZXYTT*L045B; PowerWise: N; Published: 4-Dec-2008; DatasheetVersion: May-2005; PackageVersion: revA, Jul-2001; PackageReference: LDE06A; Publisher: Altium Limited; PackageDescription: LLP, Plastic, Dual, 2.92 x 3.29 x 0.75mm Body, 6 Lead, 0.95mm Pitch, SOT23 Land; RoHS: Y; PinCount: 6; DigiKeyPartNumber: LP8345CLD-ADJCT-ND; ComponentLink1Description: LP8345 Datasheet; ComponentLink1URL: http://www.national.com/ds/LP/LP8345.pdf; ComponentLink2Description: LP8345 Web Page; ComponentLink2URL: http://www.national.com/pf/LP/LP8345.html; ComponentLink3Description: LDE06A Package Page; ComponentLink3URL: http://www.national.com/packaging/folders/lde06a.html
footprint LDE06A (PSON, 6-Leads, Body 2.92x3.29 mm, Pitch 0.95mm, NSC Recommended)
pins: 1 IN (power), 2 GND (power), 3 NC, 4 ADJ, 5 OUT (power), 6 IN (power), 7 DAP (power)

## LP8345IDT-1.8
designator U?
Low Dropout, Low IQ, 500mA CMOS Linear Regulator; PartNumber: LP8345IDT-1.8; Manufacturer: National Semiconductor; CompType: LDO IC; PackageTopMarking: NSUZXYTT*LP8345*IDT-1.8; PowerWise: N; Published: 4-Dec-2008; DatasheetVersion: May-2005; PackageVersion: revC, Apr-2003; PackageReference: TD03B; Publisher: Altium Limited; PackageDescription: TO252, Molded, Jedec, 6.8 x 6.10 x 2.30mm Body, 3 Lead, 2.28mm Pitch, Surface Mount; RoHS: Y; PinCount: 3; DigiKeyPartNumber: LP8345IDT-1.8-ND; Code_JEDEC: TO-252-AA; ComponentLink1Description: LP8345 Datasheet; ComponentLink1URL: http://www.national.com/ds/LP/LP8345.pdf; ComponentLink2Description: LP8345 Web Page; ComponentLink2URL: http://www.national.com/pf/LP/LP8345.html; ComponentLink3Description: TD03B Package Page; ComponentLink3URL: http://www.national.com/packaging/folders/td03b.html
footprint TD03B_N (D-PAK, 4-Leads, Body 6.1x6.6mm, Pitch 2.29mm, Lead Span 9.7mm, IPC Medium Density)
footprint TD03B_L (D-PAK, 4-Leads, Body 6.1x6.6mm, Pitch 2.29mm, Lead Span 9.7mm, IPC High Density)
footprint TD03B_M (D-PAK, 4-Leads, Body 6.1x6.6mm, Pitch 2.29mm, Lead Span 9.7mm, IPC Low Density)
pins: 1 OUT (power), 3 IN (power), 4 GND (power)

## LP8345IDT-2.5
designator U?
Low Dropout, Low IQ, 500mA CMOS Linear Regulator; PartNumber: LP8345IDT-2.5; Manufacturer: National Semiconductor; CompType: LDO IC; PackageTopMarking: NSUZXYTT*LP8345*IDT-2.5; Published: 4-Dec-2008; DatasheetVersion: May-2005; PackageVersion: revC, Apr-2003; PackageReference: TD03B; Publisher: Altium Limited; PackageDescription: TO252, Molded, Jedec, 6.8 x 6.10 x 2.30mm Body, 3 Lead, 2.28mm Pitch, Surface Mount; RoHS: O; PinCount: 3; DigiKeyPartNumber: LP8345IDT-2.5-ND; Code_JEDEC: TO-252-AA; ComponentLink1Description: LP8345 Datasheet; ComponentLink1URL: http://www.national.com/ds/LP/LP8345.pdf; ComponentLink2Description: LP8345 Web Page; ComponentLink2URL: http://www.national.com/pf/LP/LP8345.html; ComponentLink3Description: TD03B Package Page; ComponentLink3URL: http://www.national.com/packaging/folders/td03b.html
footprint TD03B_N (D-PAK, 4-Leads, Body 6.1x6.6mm, Pitch 2.29mm, Lead Span 9.7mm, IPC Medium Density)
footprint TD03B_L (D-PAK, 4-Leads, Body 6.1x6.6mm, Pitch 2.29mm, Lead Span 9.7mm, IPC High Density)
footprint TD03B_M (D-PAK, 4-Leads, Body 6.1x6.6mm, Pitch 2.29mm, Lead Span 9.7mm, IPC Low Density)
pins: 1 OUT (power), 3 IN (power), 4 GND (power)

## LP8345IDT-3.3
designator U?
Low Dropout, Low IQ, 500mA CMOS Linear Regulator; PartNumber: LP8345IDT-3.3; Manufacturer: National Semiconductor; CompType: LDO IC; PackageTopMarking: NSUZXYTT*LP8345*IDT-3.3; PowerWise: N; Published: 4-Dec-2008; DatasheetVersion: May-2005; PackageVersion: revC, Apr-2003; PackageReference: TD03B; Publisher: Altium Limited; PackageDescription: TO252, Molded, Jedec, 6.8 x 6.10 x 2.30mm Body, 3 Lead, 2.28mm Pitch, Surface Mount; RoHS: Y; PinCount: 3; DigiKeyPartNumber: LP8345IDT-3.3-ND; Code_JEDEC: TO-252-AA; ComponentLink1Description: LP8345 Datasheet; ComponentLink1URL: http://www.national.com/ds/LP/LP8345.pdf; ComponentLink2Description: LP8345 Web Page; ComponentLink2URL: http://www.national.com/pf/LP/LP8345.html; ComponentLink3Description: TD03B Package Page; ComponentLink3URL: http://www.national.com/packaging/folders/td03b.html
footprint TD03B_N (D-PAK, 4-Leads, Body 6.1x6.6mm, Pitch 2.29mm, Lead Span 9.7mm, IPC Medium Density)
footprint TD03B_L (D-PAK, 4-Leads, Body 6.1x6.6mm, Pitch 2.29mm, Lead Span 9.7mm, IPC High Density)
footprint TD03B_M (D-PAK, 4-Leads, Body 6.1x6.6mm, Pitch 2.29mm, Lead Span 9.7mm, IPC Low Density)
pins: 1 OUT (power), 3 IN (power), 4 GND (power)

## LP8345IDT-5.0
designator U?
Low Dropout, Low IQ, 500mA CMOS Linear Regulator; PartNumber: LP8345IDT-5.0; Manufacturer: National Semiconductor; CompType: LDO IC; PackageTopMarking: NSUZXYTT*LP8345*IDT-5.0; Published: 4-Dec-2008; DatasheetVersion: May-2005; PackageVersion: revC, Apr-2003; PackageReference: TD03B; Publisher: Altium Limited; PackageDescription: TO252, Molded, Jedec, 6.8 x 6.10 x 2.30mm Body, 3 Lead, 2.28mm Pitch, Surface Mount; RoHS: Y; PinCount: 3; DigiKeyPartNumber: LP8345IDT-5.0-ND; Code_JEDEC: TO-252-AA; ComponentLink1Description: LP8345 Datasheet; ComponentLink1URL: http://www.national.com/ds/LP/LP8345.pdf; ComponentLink2Description: LP8345 Web Page; ComponentLink2URL: http://www.national.com/pf/LP/LP8345.html; ComponentLink3Description: TD03B Package Page; ComponentLink3URL: http://www.national.com/packaging/folders/td03b.html
footprint TD03B_N (D-PAK, 4-Leads, Body 6.1x6.6mm, Pitch 2.29mm, Lead Span 9.7mm, IPC Medium Density)
footprint TD03B_L (D-PAK, 4-Leads, Body 6.1x6.6mm, Pitch 2.29mm, Lead Span 9.7mm, IPC High Density)
footprint TD03B_M (D-PAK, 4-Leads, Body 6.1x6.6mm, Pitch 2.29mm, Lead Span 9.7mm, IPC Low Density)
pins: 1 OUT (power), 3 IN (power), 4 GND (power)

## LP8345ILD-1.8
designator U?
Low Dropout, Low IQ, 500mA CMOS Linear Regulator; PartNumber: LP8345ILD-1.8; Manufacturer: National Semiconductor; CompType: LDO IC; PackageTopMarking: ZXYTT*L074B; Published: 4-Dec-2008; DatasheetVersion: May-2005; PackageVersion: revA, Jul-2001; PackageReference: LDE06A; Publisher: Altium Limited; PackageDescription: LLP, Plastic, Dual, 2.92 x 3.29 x 0.75mm Body, 6 Lead, 0.95mm Pitch, SOT23 Land; RoHS: Y; PinCount: 6; DigiKeyPartNumber: LP8345ILD-1.8-ND; ComponentLink1Description: LP8345 Datasheet; ComponentLink1URL: http://www.national.com/ds/LP/LP8345.pdf; ComponentLink2Description: LP8345 Web Page; ComponentLink2URL: http://www.national.com/pf/LP/LP8345.html; ComponentLink3Description: LDE06A Package Page; ComponentLink3URL: http://www.national.com/packaging/folders/lde06a.html
footprint LDE06A (PSON, 6-Leads, Body 2.92x3.29 mm, Pitch 0.95mm, NSC Recommended)
pins: 1 IN (power), 2 GND (power), 3 NC, 4 OUT (power), 5 SNS (out), 6 IN (power), 7 DAP (power)

## LP8345ILD-2.5
designator U?
Low Dropout, Low IQ, 500mA CMOS Linear Regulator; PartNumber: LP8345ILD-2.5; Manufacturer: National Semiconductor; CompType: LDO IC; PackageTopMarking: ZXYTT*L075B; PowerWise: N; Published: 4-Dec-2008; DatasheetVersion: May-2005; PackageVersion: revA, Jul-2001; PackageReference: LDE06A; Publisher: Altium Limited; PackageDescription: LLP, Plastic, Dual, 2.92 x 3.29 x 0.75mm Body, 6 Lead, 0.95mm Pitch, SOT23 Land; RoHS: Y; PinCount: 6; DigiKeyPartNumber: LP8345ILD-2.5-ND; ComponentLink1Description: LP8345 Datasheet; ComponentLink1URL: http://www.national.com/ds/LP/LP8345.pdf; ComponentLink2Description: LP8345 Web Page; ComponentLink2URL: http://www.national.com/pf/LP/LP8345.html; ComponentLink3Description: LDE06A Package Page; ComponentLink3URL: http://www.national.com/packaging/folders/lde06a.html
footprint LDE06A (PSON, 6-Leads, Body 2.92x3.29 mm, Pitch 0.95mm, NSC Recommended)
pins: 1 IN (power), 2 GND (power), 3 NC, 4 OUT (power), 5 SNS (out), 6 IN (power), 7 DAP (power)